# EAGLE library part PINHD-2X3 (library pinhead_edge)
PIN HEADER
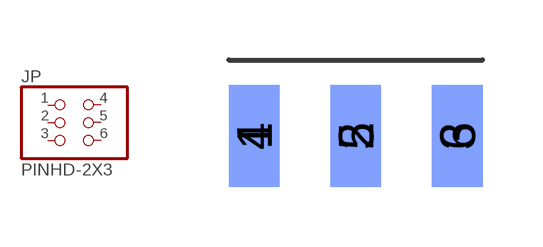
[diagram p0: symbol with the pads of 2X03; footprint 2X03]

Designator prefix JP

## PINHD-2X3  [2X03]
1  1  pas
2  2  pas
3  3  pas
4  4  pas
5  5  pas
6  6  pas

## Footprint 2X03 (pad centres in mm)
PIN HEADER
smd 1.27 x 2.54: 1 -2.54,1.905; 2 0,1.905; 3 2.54,1.905
smd 1.27 x 2.54 bottom: 4 -2.54,1.905; 5 0,1.905; 6 2.54,1.905